# EAGLE library part ULN2803 (library transistor-aray)
Darlington Transistor Arrays Source: http://www.ti.com/lit/ds/symlink/uln2803a.pdf Source: http://www.ti.com/lit/ds/symlink/uln2804a.pdf Michael J. Coury TRS Eng LLC
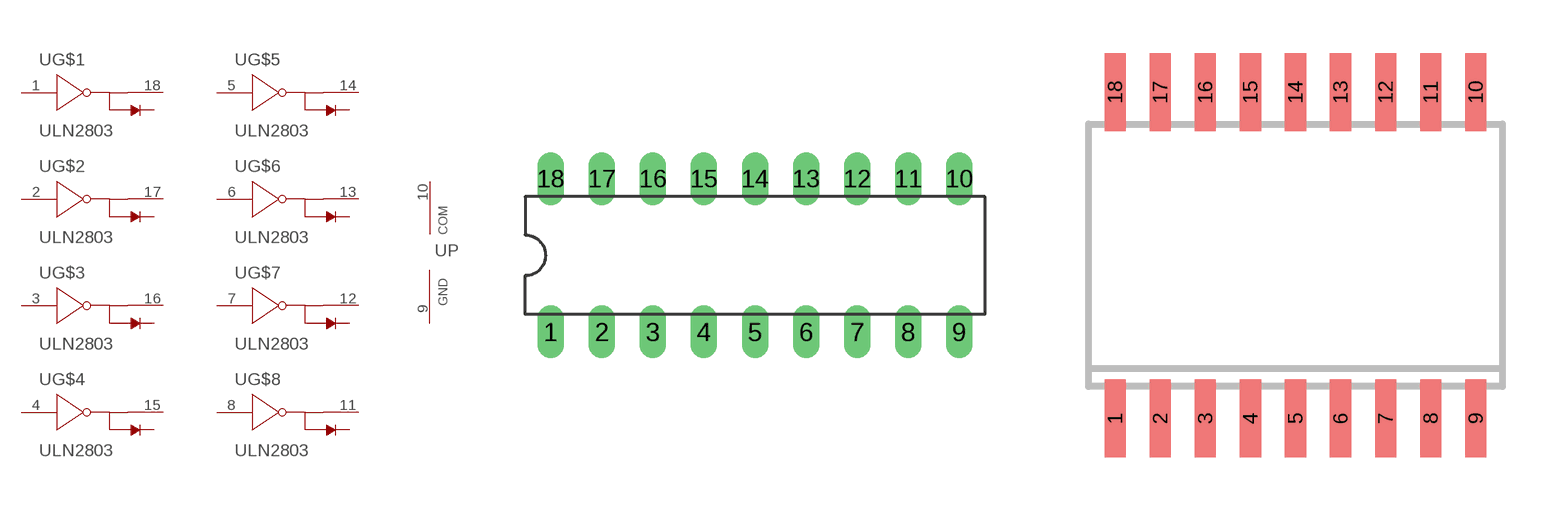
[diagram p0: symbol with the pads of DIL18; footprints DIL18, SO-18DW]

Designator prefix U; gates G$1=DARLINGTON-TRANSISTOR G$2=DARLINGTON-TRANSISTOR G$3=DARLINGTON-TRANSISTOR G$4=DARLINGTON-TRANSISTOR G$5=DARLINGTON-TRANSISTOR G$6=DARLINGTON-TRANSISTOR G$7=DARLINGTON-TRANSISTOR G$8=DARLINGTON-TRANSISTOR P=GND-COM

## ULN2803AN  [DIL18]
1  G$1:B  in
2  G$2:B  in
3  G$3:B  in
4  G$4:B  in
5  G$5:B  in
6  G$6:B  in
7  G$7:B  in
8  G$8:B  in
9  P:GND  pwr
10  P:COM  pwr
11  G$8:C  out
12  G$7:C  out
13  G$6:C  out
14  G$5:C  out
15  G$4:C  out
16  G$3:C  out
17  G$2:C  out
18  G$1:C  out

## ULN2803DW  [SO-18DW]
Pads as for DIL18

## Footprint DIL18 (pad centres in mm)
Dual In Line Package
drill 0.813 long: 1 -10.16,-3.81; 2 -7.62,-3.81; 3 -5.08,-3.81; 4 -2.54,-3.81; 5 0,-3.81; 6 2.54,-3.81; 7 5.08,-3.81; 8 7.62,-3.81; 9 10.16,-3.81; 10 10.16,3.81; 11 7.62,3.81; 12 5.08,3.81; 13 2.54,3.81; 14 0,3.81; 15 -2.54,3.81; 16 -5.08,3.81; 17 -7.62,3.81; 18 -10.16,3.81

## Footprint SO-18DW (pad centres in mm)
Small Outline Integrated Circuit wide
smd 0.6 x 2.2: 1 -5.08,-4.6; 2 -3.81,-4.6; 3 -2.54,-4.6; 4 -1.27,-4.6; 5 0,-4.6; 6 1.27,-4.6; 7 2.54,-4.6; 8 3.81,-4.6; 9 5.08,-4.6; 10 5.08,4.6; 11 3.81,4.6; 12 2.54,4.6; 13 1.27,4.6; 14 0,4.6; 15 -1.27,4.6; 16 -2.54,4.6; 17 -3.81,4.6; 18 -5.08,4.6